# Altium schematic symbol library DIOD.SchLib: 21 symbols
Pins are listed as number, name and electrical type; pins without a type are passive.

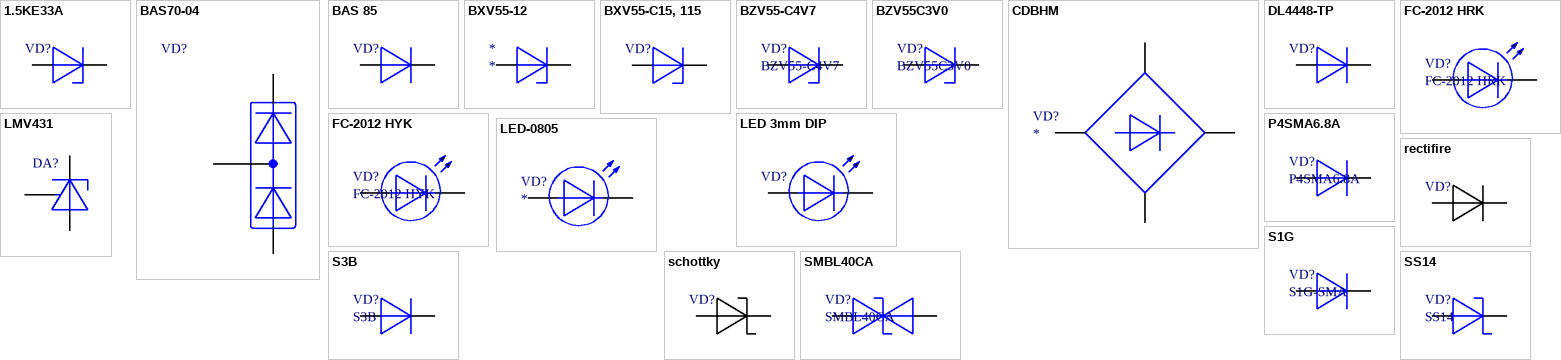
[diagram p0: symbols 1.5KE33A to SS14]

## 1.5KE33A
designator VD?
footprint DO-201AV
pins: 1 A, 2 K

## BAS70-04
designator VD?  (value not drawn)
footprint SOT23-3 (SOT23, 3-Leads, Body 2,90x2,45mm, Pitch 0,95mm, IPC High Density)
pins: 1 A, 2 K, 3 С

## BAS 85
designator VD?, comment BAS85  (value not drawn)
Name: BAS85
footprint SOD80C (MELF Diode, 2-Leads, Body 3,50x1,65mm, IPC Medium Density)
pins: 1 A, 2 K

## BXV55-12
designator *
footprint SOD80C (MELF Diode, 2-Leads, Body 3,50x1,65mm, IPC Medium Density)
pins: 1 K, 2 A

## BXV55-C15, 115
designator VD?
Voltage regulator diodes
footprint DIOMELF3516N (MELF Diode, 2-Leads, Body 3,50x1,65mm, IPC Medium Density)
pins: 1 A, 2 K

## BZV55-C4V7
designator VD?
Name: BZV55-C4V7
footprint SOD80C (MELF Diode, 2-Leads, Body 3,50x1,65mm, IPC Medium Density)
pins: 1 A, 2 K

## BZV55C3V0
designator VD?
Name: BZV55C3V0
footprint SOD80C (MELF Diode, 2-Leads, Body 3,50x1,65mm, IPC Medium Density)
pins: 1 A, 2 K

## CDBHM
designator VD?
footprint CDBHM
pins: 1, 2, 3, 4

## DL4448-TP
designator VD?  (value not drawn)
footprint SOD80C (MELF Diode, 2-Leads, Body 3,50x1,65mm, IPC Medium Density)
pins: 1 A, 2 K

## FC-2012 HRK
designator VD?
Name: FC-2012 HRK
footprint LED-0805-RED
pins: 1 A, 2 K

## FC-2012 HYK
designator VD?
Name: FC-2012 HYK
footprint LED-0805-YELLOW
pins: 1 A, 2 K

## LED 3mm DIP
designator VD?  (value not drawn)
footprint LED-3mm-RED
pins: A, K

## LED-0805
designator VD?
footprint DIOC2113X06L-LED (Chip Diode, 2-Leads, Body 2,10x1,30mm, IPC High Density)
pins: 1 A, 2 K

## LMV431
designator DA?, comment Adjustable Precision Shunt Regulators  (value not drawn)
footprint SOT-23-5(MD) (SOT23, 5-Leads, Body 2,90x2,45mm, Pitch 0,95mm, IPC Medium Density)
pins: 3 K, 4 REF, 5 A

## P4SMA6.8A
designator VD?
Name: P4SMA6.8A
footprint SMA-(DO214AC)
pins: 1 A, 2 K

## rectifire
designator VD?  (value not drawn)
pins: 1 A, 2 K

## S1G
designator VD?, comment S1G-SMA
Name: S1G-SMA
footprint SMA-DIOD-SS (Molded Capacitor, 2-Leads, Body 4,30x2,70mm, IPC Medium Density)
pins: 1 K, 2 A

## S3B
designator VD?
Name: S3B
footprint SMC-(DO-214AB)
pins: 1 A, 2 K

## schottky
designator VD?  (value not drawn)
pins: 1 A, 2 K

## SMBL40CA
designator VD?
Name: SMBL40CA
footprint SMBJ
pins: 1 K, 2 A

## SS14
designator VD?
Name: SS14
footprint SMA-(DO214AC)
pins: 1 A, 2 K